# Altium footprint library resistor-sil.PCBLIB: 11 footprints
Each footprint in its own frame and in the unit in brackets; x right, y up, seen from the top. Pads: shape width x height; smd on the part's side, far side on the other; paste and mask are expansions set on the pad; w line width, h text height; cw(c..) or ccw(c..) is an arc to the next point about the centre after c.
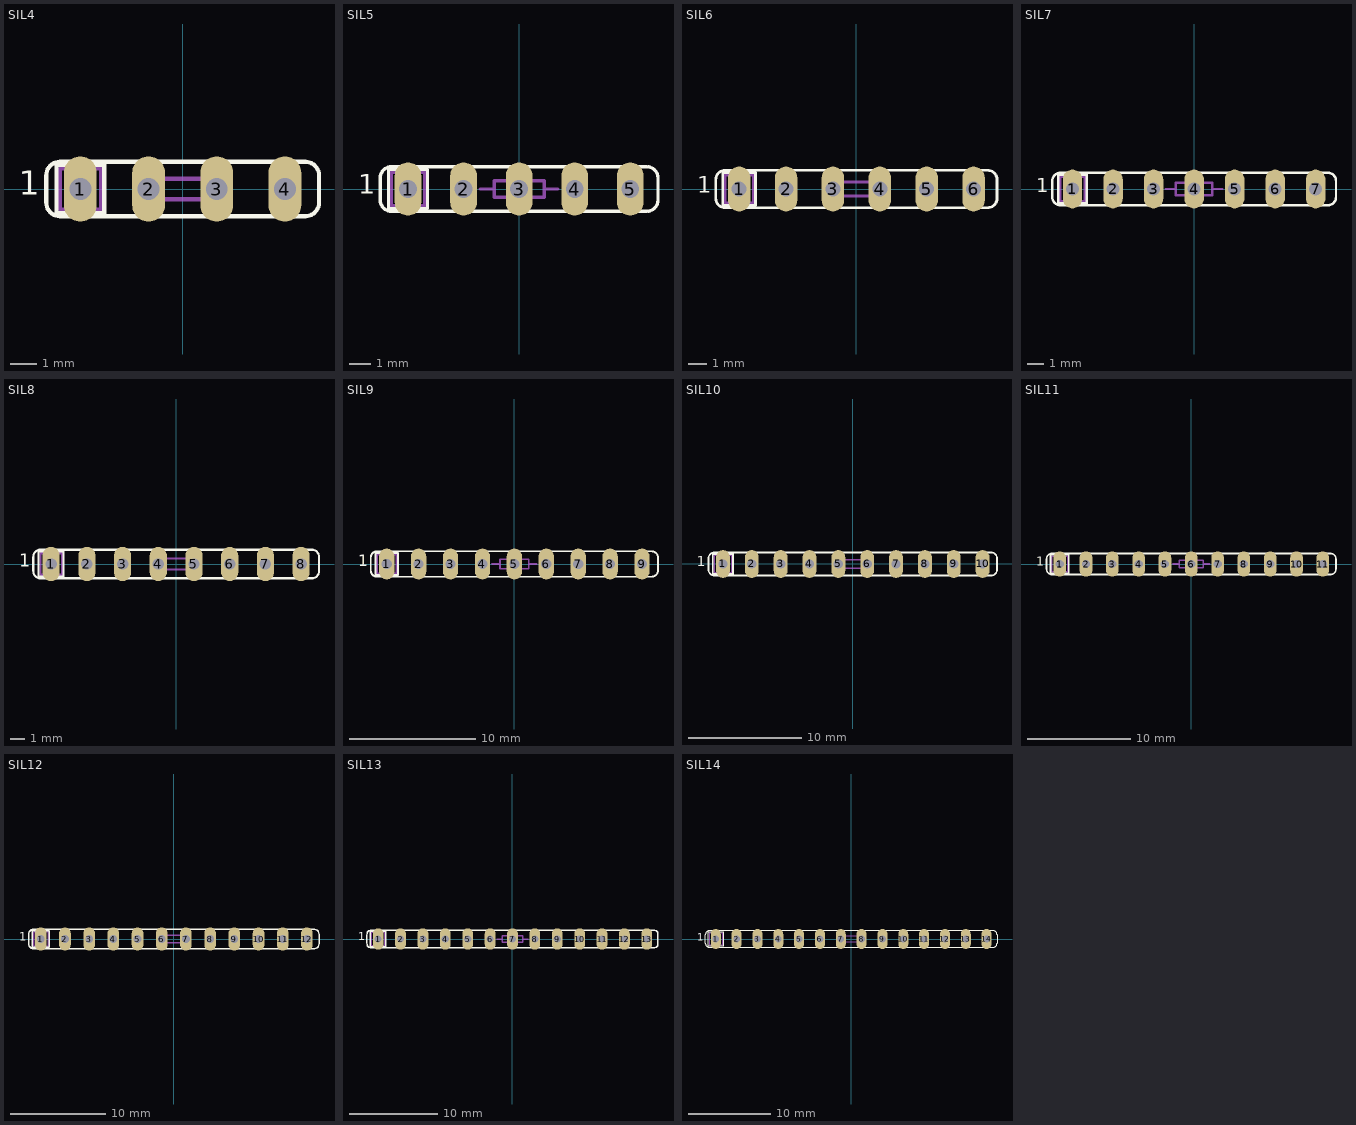
[diagram p0: the footprints below, top view; thin cyan lines are the x and y axes]

## SIL4 [mil]
pads (4):
  oval 48x96 hole 32: 1(-150,0) 2(-50,0) 3(50,0) 4(150,0)
Top Overlay:
  lines w6: -200,-20 ccw(c-180,-20) -180,-40 180,-40 ccw(c180,-20) 200,-20 200,20 ccw(c180,20) 180,40 -180,40 ccw(c-180,20) -200,20 -200,-20 ; -185,-35 -115,-35 -115,35 -185,35 -185,-35
  text "1" at -240,-20 h60.45
Mechanical 16:
  lines w6: -70,0 -45,0 ; 70,0 45,0 ; -45,0 -45,-15 45,-15 45,0 ; -45,0 -45,15 45,15 45,0 ; -180,-30 -120,-30 -120,30 -180,30 -180,-30

## SIL5 [mil]
pads (5):
  oval 48x96 hole 32: 1(-200,0) 2(-100,0) 3(0,0) 4(100,0) 5(200,0)
Top Overlay:
  lines w6: -250,-20 ccw(c-230,-20) -230,-40 230,-40 ccw(c230,-20) 250,-20 250,20 ccw(c230,20) 230,40 -230,40 ccw(c-230,20) -250,20 -250,-20 ; -235,-35 -165,-35 -165,35 -235,35 -235,-35
  text "1" at -290,-20 h60.45
Mechanical 16:
  lines w6: -70,0 -45,0 ; 70,0 45,0 ; -45,0 -45,-15 45,-15 45,0 ; -45,0 -45,15 45,15 45,0 ; -230,-30 -170,-30 -170,30 -230,30 -230,-30

## SIL6 [mil]
pads (6):
  oval 48x96 hole 32: 1(-250,0) 2(-150,0) 3(-50,0) 4(50,0) 5(150,0) 6(250,0)
Top Overlay:
  lines w6: -300,-20 -300,20 cw(c-280,20) -280,40 280,40 cw(c280,20) 300,20 300,-20 cw(c280,-20) 280,-40 -280,-40 cw(c-280,-20) -300,-20 ; -285,-35 -215,-35 -215,35 -285,35 -285,-35
  text "1" at -340,-20 h60.45
Mechanical 16:
  lines w6: -70,0 -45,0 ; 70,0 45,0 ; -45,0 -45,-15 45,-15 45,0 ; -45,0 -45,15 45,15 45,0 ; -280,-30 -220,-30 -220,30 -280,30 -280,-30

## SIL7 [mil]
pads (7):
  oval 48x96 hole 32: 1(-300,0) 2(-200,0) 3(-100,0) 4(0,0) 5(100,0) 6(200,0) 7(300,0)
Top Overlay:
  lines w6: -350,-20 ccw(c-330,-20) -330,-40 330,-40 ccw(c330,-20) 350,-20 350,20 ccw(c330,20) 330,40 -330,40 ccw(c-330,20) -350,20 -350,-20 ; -335,-35 -265,-35 -265,35 -335,35 -335,-35
  text "1" at -390,-20 h60.45
Mechanical 16:
  lines w6: -70,0 -45,0 ; 70,0 45,0 ; -45,0 -45,-15 45,-15 45,0 ; -45,0 -45,15 45,15 45,0 ; -330,-30 -270,-30 -270,30 -330,30 -330,-30

## SIL8 [mil]
pads (8):
  oval 48x96 hole 32: 1(-350,0) 2(-250,0) 3(-150,0) 4(-50,0) 5(50,0) 6(150,0) 7(250,0) 8(350,0)
Top Overlay:
  lines w6: -400,-20 ccw(c-380,-20) -380,-40 380,-40 ccw(c380,-20) 400,-20 400,20 ccw(c380,20) 380,40 -380,40 ccw(c-380,20) -400,20 -400,-20 ; -385,-35 -315,-35 -315,35 -385,35 -385,-35
  text "1" at -440,-20 h60.45
Mechanical 16:
  lines w6: -70,0 -45,0 ; 70,0 45,0 ; -45,0 -45,-15 45,-15 45,0 ; -45,0 -45,15 45,15 45,0 ; -380,-30 -320,-30 -320,30 -380,30 -380,-30

## SIL9 [mil]
pads (9):
  oval 48x96 hole 32: 1(-400,0) 2(-300,0) 3(-200,0) 4(-100,0) 5(0,0) 6(100,0) 7(200,0) 8(300,0) 9(400,0)
Top Overlay:
  lines w6: -450,-20 ccw(c-430,-20) -430,-40 430,-40 ccw(c430,-20) 450,-20 450,20 ccw(c430,20) 430,40 -430,40 ccw(c-430,20) -450,20 -450,-20 ; -435,-35 -365,-35 -365,35 -435,35 -435,-35
  text "1" at -490,-20 h60.45
Mechanical 16:
  lines w6: -70,0 -45,0 ; 70,0 45,0 ; -45,0 -45,-15 45,-15 45,0 ; -45,0 -45,15 45,15 45,0 ; -430,-30 -370,-30 -370,30 -430,30 -430,-30

## SIL10 [mil]
pads (10):
  oval 48x96 hole 32: 1(-450,0) 2(-350,0) 3(-250,0) 4(-150,0) 5(-50,0) 6(50,0) 7(150,0) 8(250,0) 9(350,0) 10(450,0)
Top Overlay:
  lines w6: -500,-20 ccw(c-480,-20) -480,-40 480,-40 ccw(c480,-20) 500,-20 500,20 ccw(c480,20) 480,40 -480,40 ccw(c-480,20) -500,20 -500,-20 ; -485,-35 -415,-35 -415,35 -485,35 -485,-35
  text "1" at -540,-20 h60.45
Mechanical 16:
  lines w6: -70,0 -45,0 ; 70,0 45,0 ; -45,0 -45,-15 45,-15 45,0 ; -45,0 -45,15 45,15 45,0 ; -480,-30 -420,-30 -420,30 -480,30 -480,-30

## SIL11 [mil]
pads (11):
  oval 48x96 hole 32: 1(-500,0) 2(-400,0) 3(-300,0) 4(-200,0) 5(-100,0) 6(0,0) 7(100,0) 8(200,0) 9(300,0) 10(400,0) 11(500,0)
Top Overlay:
  lines w6: -550,-20 ccw(c-530,-20) -530,-40 530,-40 ccw(c530,-20) 550,-20 550,20 ccw(c530,20) 530,40 -530,40 ccw(c-530,20) -550,20 -550,-20 ; -535,-35 -465,-35 -465,35 -535,35 -535,-35
  text "1" at -590,-20 h60.45
Mechanical 16:
  lines w6: -70,0 -45,0 ; 70,0 45,0 ; -45,0 -45,-15 45,-15 45,0 ; -45,0 -45,15 45,15 45,0 ; -530,-30 -470,-30 -470,30 -530,30 -530,-30

## SIL12 [mil]
pads (12):
  oval 48x96 hole 32: 1(-550,0) 2(-450,0) 3(-350,0) 4(-250,0) 5(-150,0) 6(-50,0) 7(50,0) 8(150,0) 9(250,0) 10(350,0) 11(450,0) 12(550,0)
Top Overlay:
  lines w6: -600,-20 ccw(c-580,-20) -580,-40 580,-40 ccw(c580,-20) 600,-20 600,20 ccw(c580,20) 580,40 -580,40 ccw(c-580,20) -600,20 -600,-20 ; -585,-35 -515,-35 -515,35 -585,35 -585,-35
  text "1" at -640,-20 h60.45
Mechanical 16:
  lines w6: -70,0 -45,0 ; 70,0 45,0 ; -45,0 -45,-15 45,-15 45,0 ; -45,0 -45,15 45,15 45,0 ; -580,-30 -520,-30 -520,30 -580,30 -580,-30

## SIL13 [mil]
pads (13):
  oval 48x96 hole 32: 1(-600,0) 2(-500,0) 3(-400,0) 4(-300,0) 5(-200,0) 6(-100,0) 7(0,0) 8(100,0) 9(200,0) 10(300,0) 11(400,0) 12(500,0) 13(600,0)
Top Overlay:
  lines w6: -650,-20 ccw(c-630,-20) -630,-40 630,-40 ccw(c630,-20) 650,-20 650,20 ccw(c630,20) 630,40 -630,40 ccw(c-630,20) -650,20 -650,-20 ; -635,-35 -565,-35 -565,35 -635,35 -635,-35
  text "1" at -690,-20 h60.45
Mechanical 16:
  lines w6: -70,0 -45,0 ; 70,0 45,0 ; -45,0 -45,-15 45,-15 45,0 ; -45,0 -45,15 45,15 45,0 ; -630,-30 -570,-30 -570,30 -630,30 -630,-30

## SIL14 [mil]
pads (14):
  oval 48x96 hole 32: 1(-650,0) 2(-550,0) 3(-450,0) 4(-350,0) 5(-250,0) 6(-150,0) 7(-50,0) 8(50,0) 9(150,0) 10(250,0) 11(350,0) 12(450,0) 13(550,0) 14(650,0)
Top Overlay:
  lines w6: -700,-20 ccw(c-680,-20) -680,-40 680,-40 ccw(c680,-20) 700,-20 700,20 ccw(c680,20) 680,40 -680,40 ccw(c-680,20) -700,20 -700,-20 ; -685,-35 -615,-35 -615,35 -685,35 -685,-35
  text "1" at -740,-20 h60.45
Mechanical 16:
  lines w6: -70,0 -45,0 ; 70,0 45,0 ; -45,0 -45,-15 45,-15 45,0 ; -45,0 -45,15 45,15 45,0 ; -680,-30 -620,-30 -620,30 -680,30 -680,-30